# Altium footprint library QFP.PcbLib: 10 footprints
Each footprint in its own frame and in the unit in brackets; x right, y up, seen from the top. Pads: shape width x height; smd on the part's side, far side on the other; paste and mask are expansions set on the pad; w line width, h text height; cw(c..) or ccw(c..) is an arc to the next point about the centre after c.
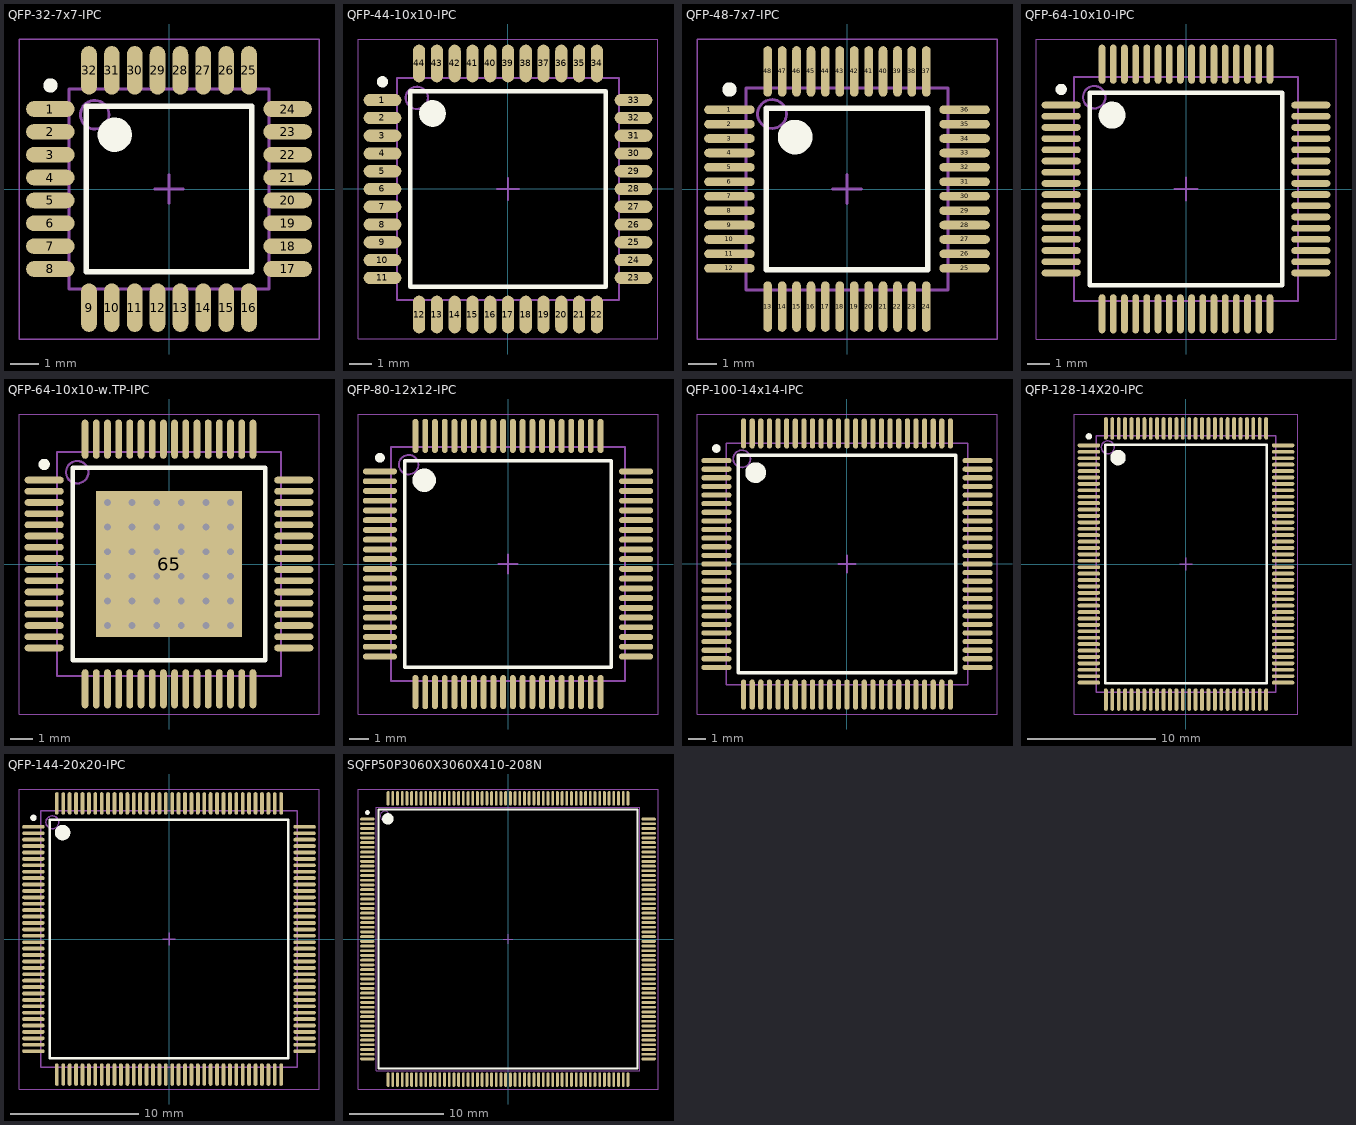
[diagram p0: the footprints below, top view; thin cyan lines are the x and y axes]

## QFP-32-7x7-IPC [mm] "TQFP, 32-Leads, Body 7.00x7.00mm, Pitch 0.80mm, IPC Medium Density"
height 1.6
pads (32):
  oval 1.7x0.55 smd: 1(-4.15,2.8) 2(-4.15,2) 3(-4.15,1.2) 4(-4.15,0.4) 5(-4.15,-0.4) 6(-4.15,-1.2) 7(-4.15,-2) 8(-4.15,-2.8) 17(4.15,-2.8) 18(4.15,-2) 19(4.15,-1.2) 20(4.15,-0.4) 21(4.15,0.4) 22(4.15,1.2) 23(4.15,2) 24(4.15,2.8)
  oval 0.55x1.7 smd: 9(-2.8,-4.15) 10(-2,-4.15) 11(-1.2,-4.15) 12(-0.4,-4.15) 13(0.4,-4.15) 14(1.2,-4.15) 15(2,-4.15) 16(2.8,-4.15) 25(2.8,4.15) 26(2,4.15) 27(1.2,4.15) 28(0.4,4.15) 29(-0.4,4.15) 30(-1.2,4.15) 31(-2,4.15) 32(-2.8,4.15)
Top Overlay:
  circle w0.25: c-4.15,3.625 r0.125
  circle w0.6: c-1.9,1.9 r0.3
  lines w0.2: -2.9,-2.9 -2.9,2.9 2.9,2.9 2.9,-2.9 -2.9,-2.9
Mechanical 13:
  circle w0.1: c-2.6,2.6 r0.5
  lines w0.1: -3.5,-3.5 -3.5,3.5 3.5,3.5 3.5,-3.5 -3.5,-3.5
Mechanical 15:
  lines w0.05: -5.25,-5.25 -5.25,5.25 5.25,5.25 5.25,-5.25 -5.25,-5.25
  lines w0.1: -0.5,0 0.5,0 ; 0,-0.5 0,0.5
3D body: height 1.6, standoff 0.1, extent -3.5,-3.5 3.5,3.5

## QFP-44-10x10-IPC [mm] "TQFP, 44-Leads, Body 10.00x10.00mm, Pitch 0.80mm, IPC Medium Density"
height 1.6
pads (44):
  oval 1.7x0.55 smd: 1(-5.65,4) 2(-5.65,3.2) 3(-5.65,2.4) 4(-5.65,1.6) 5(-5.65,0.8) 6(-5.65,0) 7(-5.65,-0.8) 8(-5.65,-1.6) 9(-5.65,-2.4) 10(-5.65,-3.2) 11(-5.65,-4) 23(5.65,-4) 24(5.65,-3.2) 25(5.65,-2.4) 26(5.65,-1.6) 27(5.65,-0.8) 28(5.65,0) 29(5.65,0.8) 30(5.65,1.6) 31(5.65,2.4) 32(5.65,3.2) 33(5.65,4)
  oval 0.55x1.7 smd: 12(-4,-5.65) 13(-3.2,-5.65) 14(-2.4,-5.65) 15(-1.6,-5.65) 16(-0.8,-5.65) 17(0,-5.65) 18(0.8,-5.65) 19(1.6,-5.65) 20(2.4,-5.65) 21(3.2,-5.65) 22(4,-5.65) 34(4,5.65) 35(3.2,5.65) 36(2.4,5.65) 37(1.6,5.65) 38(0.8,5.65) 39(0,5.65) 40(-0.8,5.65) 41(-1.6,5.65) 42(-2.4,5.65) 43(-3.2,5.65) 44(-4,5.65)
Top Overlay:
  circle w0.6: c-3.4,3.4 r0.3
  circle w0.25: c-5.65,4.825 r0.125
  lines w0.2: -4.4,-4.4 4.4,-4.4 4.4,4.4 -4.4,4.4 -4.4,-4.4
Mechanical 13:
  circle w0.1: c-4.1,4.1 r0.5
  lines w0.1: -5,-5 5,-5 5,5 -5,5 -5,-5
Mechanical 15:
  lines w0.05: -6.75,-6.75 6.75,-6.75 6.75,6.75 -6.75,6.75 -6.75,-6.75
  lines w0.1: -0.5,0 0.5,0 ; 0,-0.5 0,0.5
3D body: height 1.6, standoff 0.1, extent -5,-5 5,5

## QFP-48-7x7-IPC [mm] "QFP, 48-Leads, Body 7.00x7.00mm, Pitch 0.50mm, IPC Medium Density"
height 1.6
pads (48):
  oval 1.75x0.3 smd: 1(-4.075,2.75) 2(-4.075,2.25) 3(-4.075,1.75) 4(-4.075,1.25) 5(-4.075,0.75) 6(-4.075,0.25) 7(-4.075,-0.25) 8(-4.075,-0.75) 9(-4.075,-1.25) 10(-4.075,-1.75) 11(-4.075,-2.25) 12(-4.075,-2.75) 25(4.075,-2.75) 26(4.075,-2.25) 27(4.075,-1.75) 28(4.075,-1.25) 29(4.075,-0.75) 30(4.075,-0.25) 31(4.075,0.25) 32(4.075,0.75) 33(4.075,1.25) 34(4.075,1.75) 35(4.075,2.25) 36(4.075,2.75)
  oval 0.3x1.75 smd: 13(-2.75,-4.075) 14(-2.25,-4.075) 15(-1.75,-4.075) 16(-1.25,-4.075) 17(-0.75,-4.075) 18(-0.25,-4.075) 19(0.25,-4.075) 20(0.75,-4.075) 21(1.25,-4.075) 22(1.75,-4.075) 23(2.25,-4.075) 24(2.75,-4.075) 37(2.75,4.075) 38(2.25,4.075) 39(1.75,4.075) 40(1.25,4.075) 41(0.75,4.075) 42(0.25,4.075) 43(-0.25,4.075) 44(-0.75,4.075) 45(-1.25,4.075) 46(-1.75,4.075) 47(-2.25,4.075) 48(-2.75,4.075)
Top Overlay:
  circle w0.25: c-4.075,3.45 r0.125
  circle w0.6: c-1.8,1.8 r0.3
  lines w0.2: -2.8,-2.8 -2.8,2.8 2.8,2.8 2.8,-2.8 -2.8,-2.8
Mechanical 13:
  circle w0.1: c-2.6,2.6 r0.5
  lines w0.1: -3.5,-3.5 -3.5,3.5 3.5,3.5 3.5,-3.5 -3.5,-3.5
Mechanical 15:
  lines w0.05: -5.2,-5.2 -5.2,5.2 5.2,5.2 5.2,-5.2 -5.2,-5.2
  lines w0.1: -0.5,0 0.5,0 ; 0,-0.5 0,0.5
3D body: height 1.6, standoff 0.1, extent -3.5,-3.5 3.5,3.5

## QFP-64-10x10-IPC [mm] "QFP, 64-Leads, Body 10.00x10.00mm, Pitch 0.50mm, IPC Medium Density"
height 1.6
pads (64):
  oval 1.75x0.3 smd: 1(-5.575,3.75) 2(-5.575,3.25) 3(-5.575,2.75) 4(-5.575,2.25) 5(-5.575,1.75) 6(-5.575,1.25) 7(-5.575,0.75) 8(-5.575,0.25) 9(-5.575,-0.25) 10(-5.575,-0.75) 11(-5.575,-1.25) 12(-5.575,-1.75) 13(-5.575,-2.25) 14(-5.575,-2.75) 15(-5.575,-3.25) 16(-5.575,-3.75) 33(5.575,-3.75) 34(5.575,-3.25) 35(5.575,-2.75) 36(5.575,-2.25) 37(5.575,-1.75) 38(5.575,-1.25) 39(5.575,-0.75) 40(5.575,-0.25) 41(5.575,0.25) 42(5.575,0.75) 43(5.575,1.25) 44(5.575,1.75) 45(5.575,2.25) 46(5.575,2.75) 47(5.575,3.25) 48(5.575,3.75)
  oval 0.3x1.75 smd: 17(-3.75,-5.575) 18(-3.25,-5.575) 19(-2.75,-5.575) 20(-2.25,-5.575) 21(-1.75,-5.575) 22(-1.25,-5.575) 23(-0.75,-5.575) 24(-0.25,-5.575) 25(0.25,-5.575) 26(0.75,-5.575) 27(1.25,-5.575) 28(1.75,-5.575) 29(2.25,-5.575) 30(2.75,-5.575) 31(3.25,-5.575) 32(3.75,-5.575) 49(3.75,5.575) 50(3.25,5.575) 51(2.75,5.575) 52(2.25,5.575) 53(1.75,5.575) 54(1.25,5.575) 55(0.75,5.575) 56(0.25,5.575) 57(-0.25,5.575) 58(-0.75,5.575) 59(-1.25,5.575) 60(-1.75,5.575) 61(-2.25,5.575) 62(-2.75,5.575) 63(-3.25,5.575) 64(-3.75,5.575)
Top Overlay:
  circle w0.6: c-3.3,3.3 r0.3
  circle w0.25: c-5.575,4.45 r0.125
  lines w0.2: -4.3,-4.3 4.3,-4.3 4.3,4.3 -4.3,4.3 -4.3,-4.3
Mechanical 13:
  circle w0.1: c-4.1,4.1 r0.5
  lines w0.1: -5,-5 5,-5 5,5 -5,5 -5,-5
Mechanical 15:
  lines w0.05: -6.7,-6.7 6.7,-6.7 6.7,6.7 -6.7,6.7 -6.7,-6.7
  lines w0.1: -0.5,0 0.5,0 ; 0,-0.5 0,0.5
3D body: height 1.6, standoff 0.1, extent -5,-5 5,5

## QFP-64-10x10-w.TP-IPC [mm] "TSQFP, 64-Leads, Body 10.00x10.00mm, Pitch 0.50mm, Thermal Pad 6.50x6.50mm, IPC Medium Density"
height 1.2
pads (65):
  oval 1.75x0.3 smd: 1(-5.575,3.75) 2(-5.575,3.25) 3(-5.575,2.75) 4(-5.575,2.25) 5(-5.575,1.75) 6(-5.575,1.25) 7(-5.575,0.75) 8(-5.575,0.25) 9(-5.575,-0.25) 10(-5.575,-0.75) 11(-5.575,-1.25) 12(-5.575,-1.75) 13(-5.575,-2.25) 14(-5.575,-2.75) 15(-5.575,-3.25) 16(-5.575,-3.75) 33(5.575,-3.75) 34(5.575,-3.25) 35(5.575,-2.75) 36(5.575,-2.25) 37(5.575,-1.75) 38(5.575,-1.25) 39(5.575,-0.75) 40(5.575,-0.25) 41(5.575,0.25) 42(5.575,0.75) 43(5.575,1.25) 44(5.575,1.75) 45(5.575,2.25) 46(5.575,2.75) 47(5.575,3.25) 48(5.575,3.75)
  oval 0.3x1.75 smd: 17(-3.75,-5.575) 18(-3.25,-5.575) 19(-2.75,-5.575) 20(-2.25,-5.575) 21(-1.75,-5.575) 22(-1.25,-5.575) 23(-0.75,-5.575) 24(-0.25,-5.575) 25(0.25,-5.575) 26(0.75,-5.575) 27(1.25,-5.575) 28(1.75,-5.575) 29(2.25,-5.575) 30(2.75,-5.575) 31(3.25,-5.575) 32(3.75,-5.575) 49(3.75,5.575) 50(3.25,5.575) 51(2.75,5.575) 52(2.25,5.575) 53(1.75,5.575) 54(1.25,5.575) 55(0.75,5.575) 56(0.25,5.575) 57(-0.25,5.575) 58(-0.75,5.575) 59(-1.25,5.575) 60(-1.75,5.575) 61(-2.25,5.575) 62(-2.75,5.575) 63(-3.25,5.575) 64(-3.75,5.575)
  rect 6.5x6.5 smd: 65(0,0)
via -2.75,2.75 diameter 0.6 hole 0.3
via -1.65,2.75 diameter 0.6 hole 0.3
via -0.55,2.75 diameter 0.6 hole 0.3
via 0.55,2.75 diameter 0.6 hole 0.3
via 1.65,2.75 diameter 0.6 hole 0.3
via 2.75,2.75 diameter 0.6 hole 0.3
via -2.75,1.65 diameter 0.6 hole 0.3
via -1.65,1.65 diameter 0.6 hole 0.3
via -0.55,1.65 diameter 0.6 hole 0.3
via 0.55,1.65 diameter 0.6 hole 0.3
via 1.65,1.65 diameter 0.6 hole 0.3
via 2.75,1.65 diameter 0.6 hole 0.3
via -2.75,0.55 diameter 0.6 hole 0.3
via -1.65,0.55 diameter 0.6 hole 0.3
via -0.55,0.55 diameter 0.6 hole 0.3
via 0.55,0.55 diameter 0.6 hole 0.3
via 1.65,0.55 diameter 0.6 hole 0.3
via 2.75,0.55 diameter 0.6 hole 0.3
via -2.75,-0.55 diameter 0.6 hole 0.3
via -1.65,-0.55 diameter 0.6 hole 0.3
via -0.55,-0.55 diameter 0.6 hole 0.3
via 0.55,-0.55 diameter 0.6 hole 0.3
via 1.65,-0.55 diameter 0.6 hole 0.3
via 2.75,-0.55 diameter 0.6 hole 0.3
via -2.75,-1.65 diameter 0.6 hole 0.3
via -1.65,-1.65 diameter 0.6 hole 0.3
via -0.55,-1.65 diameter 0.6 hole 0.3
via 0.55,-1.65 diameter 0.6 hole 0.3
via 1.65,-1.65 diameter 0.6 hole 0.3
via 2.75,-1.65 diameter 0.6 hole 0.3
via -2.75,-2.75 diameter 0.6 hole 0.3
via -1.65,-2.75 diameter 0.6 hole 0.3
via -0.55,-2.75 diameter 0.6 hole 0.3
via 0.55,-2.75 diameter 0.6 hole 0.3
via 1.65,-2.75 diameter 0.6 hole 0.3
via 2.75,-2.75 diameter 0.6 hole 0.3
Top Overlay:
  circle w0.25: c-5.575,4.45 r0.125
  lines w0.2: -4.3,-4.3 -4.3,4.3 4.3,4.3 4.3,-4.3 -4.3,-4.3
Mechanical 13:
  circle w0.1: c-4.1,4.1 r0.5
  lines w0.1: -5,-5 -5,5 5,5 5,-5 -5,-5
Mechanical 15:
  lines w0.05: -6.7,-6.7 -6.7,6.7 6.7,6.7 6.7,-6.7 -6.7,-6.7
  lines w0.1: -0.5,0 0.5,0 ; 0,-0.5 0,0.5
3D body: height 1.2, standoff 0.1, extent -5,-5 5,5

## QFP-80-12x12-IPC [mm] "QFP, 80-Leads, Body 12.00x12.00mm, Pitch 0.50mm, IPC Medium Density"
height 1.6
pads (80):
  oval 1.75x0.3 smd: 1(-6.575,4.75) 2(-6.575,4.25) 3(-6.575,3.75) 4(-6.575,3.25) 5(-6.575,2.75) 6(-6.575,2.25) 7(-6.575,1.75) 8(-6.575,1.25) 9(-6.575,0.75) 10(-6.575,0.25) 11(-6.575,-0.25) 12(-6.575,-0.75) 13(-6.575,-1.25) 14(-6.575,-1.75) 15(-6.575,-2.25) 16(-6.575,-2.75) 17(-6.575,-3.25) 18(-6.575,-3.75) 19(-6.575,-4.25) 20(-6.575,-4.75) 41(6.575,-4.75) 42(6.575,-4.25) 43(6.575,-3.75) 44(6.575,-3.25) 45(6.575,-2.75) 46(6.575,-2.25) 47(6.575,-1.75) 48(6.575,-1.25) 49(6.575,-0.75) 50(6.575,-0.25) 51(6.575,0.25) 52(6.575,0.75) 53(6.575,1.25) 54(6.575,1.75) 55(6.575,2.25) 56(6.575,2.75) 57(6.575,3.25) 58(6.575,3.75) 59(6.575,4.25) 60(6.575,4.75)
  oval 0.3x1.75 smd: 21(-4.75,-6.575) 22(-4.25,-6.575) 23(-3.75,-6.575) 24(-3.25,-6.575) 25(-2.75,-6.575) 26(-2.25,-6.575) 27(-1.75,-6.575) 28(-1.25,-6.575) 29(-0.75,-6.575) 30(-0.25,-6.575) 31(0.25,-6.575) 32(0.75,-6.575) 33(1.25,-6.575) 34(1.75,-6.575) 35(2.25,-6.575) 36(2.75,-6.575) 37(3.25,-6.575) 38(3.75,-6.575) 39(4.25,-6.575) 40(4.75,-6.575) 61(4.75,6.575) 62(4.25,6.575) 63(3.75,6.575) 64(3.25,6.575) 65(2.75,6.575) 66(2.25,6.575) 67(1.75,6.575) 68(1.25,6.575) 69(0.75,6.575) 70(0.25,6.575) 71(-0.25,6.575) 72(-0.75,6.575) 73(-1.25,6.575) 74(-1.75,6.575) 75(-2.25,6.575) 76(-2.75,6.575) 77(-3.25,6.575) 78(-3.75,6.575) 79(-4.25,6.575) 80(-4.75,6.575)
Top Overlay:
  circle w0.6: c-4.3,4.3 r0.3
  circle w0.25: c-6.575,5.45 r0.125
  lines w0.2: -5.3,-5.3 5.3,-5.3 5.3,5.3 -5.3,5.3 -5.3,-5.3
Mechanical 13:
  circle w0.1: c-5.1,5.1 r0.5
  lines w0.1: -6,-6 6,-6 6,6 -6,6 -6,-6
Mechanical 15:
  lines w0.05: -7.7,-7.7 7.7,-7.7 7.7,7.7 -7.7,7.7 -7.7,-7.7
  lines w0.1: -0.5,0 0.5,0 ; 0,-0.5 0,0.5
3D body: height 1.6, standoff 0.1, extent -6,-6 6,6

## QFP-100-14x14-IPC [mm] "TSQFP, 100-Leads, Body 14.00x14.00mm, Pitch 0.50mm, IPC Medium Density"
height 1.6
pads (100):
  oval 1.75x0.3 smd: 1(-7.575,6) 2(-7.575,5.5) 3(-7.575,5) 4(-7.575,4.5) 5(-7.575,4) 6(-7.575,3.5) 7(-7.575,3) 8(-7.575,2.5) 9(-7.575,2) 10(-7.575,1.5) 11(-7.575,1) 12(-7.575,0.5) 13(-7.575,0) 14(-7.575,-0.5) 15(-7.575,-1) 16(-7.575,-1.5) 17(-7.575,-2) 18(-7.575,-2.5) 19(-7.575,-3) 20(-7.575,-3.5) 21(-7.575,-4) 22(-7.575,-4.5) 23(-7.575,-5) 24(-7.575,-5.5) 25(-7.575,-6) 51(7.575,-6) 52(7.575,-5.5) 53(7.575,-5) 54(7.575,-4.5) 55(7.575,-4) 56(7.575,-3.5) 57(7.575,-3) 58(7.575,-2.5) 59(7.575,-2) 60(7.575,-1.5) 61(7.575,-1) 62(7.575,-0.5) 63(7.575,0) 64(7.575,0.5) 65(7.575,1) 66(7.575,1.5) 67(7.575,2) 68(7.575,2.5) 69(7.575,3) 70(7.575,3.5) 71(7.575,4) 72(7.575,4.5) 73(7.575,5) 74(7.575,5.5) 75(7.575,6)
  oval 0.3x1.75 smd: 26(-6,-7.575) 27(-5.5,-7.575) 28(-5,-7.575) 29(-4.5,-7.575) 30(-4,-7.575) 31(-3.5,-7.575) 32(-3,-7.575) 33(-2.5,-7.575) 34(-2,-7.575) 35(-1.5,-7.575) 36(-1,-7.575) 37(-0.5,-7.575) 38(0,-7.575) 39(0.5,-7.575) 40(1,-7.575) 41(1.5,-7.575) 42(2,-7.575) 43(2.5,-7.575) 44(3,-7.575) 45(3.5,-7.575) 46(4,-7.575) 47(4.5,-7.575) 48(5,-7.575) 49(5.5,-7.575) 50(6,-7.575) 76(6,7.575) 77(5.5,7.575) 78(5,7.575) 79(4.5,7.575) 80(4,7.575) 81(3.5,7.575) 82(3,7.575) 83(2.5,7.575) 84(2,7.575) 85(1.5,7.575) 86(1,7.575) 87(0.5,7.575) 88(0,7.575) 89(-0.5,7.575) 90(-1,7.575) 91(-1.5,7.575) 92(-2,7.575) 93(-2.5,7.575) 94(-3,7.575) 95(-3.5,7.575) 96(-4,7.575) 97(-4.5,7.575) 98(-5,7.575) 99(-5.5,7.575) 100(-6,7.575)
Top Overlay:
  circle w0.6: c-5.3,5.3 r0.3
  circle w0.25: c-7.575,6.7 r0.125
  lines w0.2: -6.3,-6.3 6.3,-6.3 6.3,6.3 -6.3,6.3 -6.3,-6.3
Mechanical 13:
  circle w0.1: c-6.1,6.1 r0.5
  lines w0.1: -7,-7 7,-7 7,7 -7,7 -7,-7
Mechanical 15:
  lines w0.05: -8.7,-8.7 8.7,-8.7 8.7,8.7 -8.7,8.7 -8.7,-8.7
  lines w0.1: -0.5,0 0.5,0 ; 0,-0.5 0,0.5
3D body: height 1.6, standoff 0.15, extent -7,-7 7,7

## QFP-128-14X20-IPC [mm] "TSQFP, 128-Leads, Body 14.00x20.00mm, Pitch 0.50mm, IPC Medium Density"
height 1.6
pads (128):
  oval 1.75x0.3 smd: 1(-7.575,9.25) 2(-7.575,8.75) 3(-7.575,8.25) 4(-7.575,7.75) 5(-7.575,7.25) 6(-7.575,6.75) 7(-7.575,6.25) 8(-7.575,5.75) 9(-7.575,5.25) 10(-7.575,4.75) 11(-7.575,4.25) 12(-7.575,3.75) 13(-7.575,3.25) 14(-7.575,2.75) 15(-7.575,2.25) 16(-7.575,1.75) 17(-7.575,1.25) 18(-7.575,0.75) 19(-7.575,0.25) 20(-7.575,-0.25) 21(-7.575,-0.75) 22(-7.575,-1.25) 23(-7.575,-1.75) 24(-7.575,-2.25) 25(-7.575,-2.75) 26(-7.575,-3.25) 27(-7.575,-3.75) 28(-7.575,-4.25) 29(-7.575,-4.75) 30(-7.575,-5.25) 31(-7.575,-5.75) 32(-7.575,-6.25) 33(-7.575,-6.75) 34(-7.575,-7.25) 35(-7.575,-7.75) 36(-7.575,-8.25) 37(-7.575,-8.75) 38(-7.575,-9.25) 65(7.575,-9.25) 66(7.575,-8.75) 67(7.575,-8.25) 68(7.575,-7.75) 69(7.575,-7.25) 70(7.575,-6.75) 71(7.575,-6.25) 72(7.575,-5.75) 73(7.575,-5.25) 74(7.575,-4.75) 75(7.575,-4.25) 76(7.575,-3.75) 77(7.575,-3.25) 78(7.575,-2.75) 79(7.575,-2.25) 80(7.575,-1.75) 81(7.575,-1.25) 82(7.575,-0.75) 83(7.575,-0.25) 84(7.575,0.25) 85(7.575,0.75) 86(7.575,1.25) 87(7.575,1.75) 88(7.575,2.25) 89(7.575,2.75) 90(7.575,3.25) 91(7.575,3.75) 92(7.575,4.25) 93(7.575,4.75) 94(7.575,5.25) 95(7.575,5.75) 96(7.575,6.25) 97(7.575,6.75) 98(7.575,7.25) 99(7.575,7.75) 100(7.575,8.25) 101(7.575,8.75) 102(7.575,9.25)
  oval 0.3x1.75 smd: 39(-6.25,-10.575) 40(-5.75,-10.575) 41(-5.25,-10.575) 42(-4.75,-10.575) 43(-4.25,-10.575) 44(-3.75,-10.575) 45(-3.25,-10.575) 46(-2.75,-10.575) 47(-2.25,-10.575) 48(-1.75,-10.575) 49(-1.25,-10.575) 50(-0.75,-10.575) 51(-0.25,-10.575) 52(0.25,-10.575) 53(0.75,-10.575) 54(1.25,-10.575) 55(1.75,-10.575) 56(2.25,-10.575) 57(2.75,-10.575) 58(3.25,-10.575) 59(3.75,-10.575) 60(4.25,-10.575) 61(4.75,-10.575) 62(5.25,-10.575) 63(5.75,-10.575) 64(6.25,-10.575) 103(6.25,10.575) 104(5.75,10.575) 105(5.25,10.575) 106(4.75,10.575) 107(4.25,10.575) 108(3.75,10.575) 109(3.25,10.575) 110(2.75,10.575) 111(2.25,10.575) 112(1.75,10.575) 113(1.25,10.575) 114(0.75,10.575) 115(0.25,10.575) 116(-0.25,10.575) 117(-0.75,10.575) 118(-1.25,10.575) 119(-1.75,10.575) 120(-2.25,10.575) 121(-2.75,10.575) 122(-3.25,10.575) 123(-3.75,10.575) 124(-4.25,10.575) 125(-4.75,10.575) 126(-5.25,10.575) 127(-5.75,10.575) 128(-6.25,10.575)
Top Overlay:
  circle w0.6: c-5.3,8.3 r0.3
  circle w0.25: c-7.575,9.95 r0.125
  lines w0.2: -6.3,-9.3 6.3,-9.3 6.3,9.3 -6.3,9.3 -6.3,-9.3
Mechanical 13:
  circle w0.1: c-6.1,9.1 r0.5
  lines w0.1: -7,-10 7,-10 7,10 -7,10 -7,-10
Mechanical 15:
  lines w0.05: -8.7,-11.7 8.7,-11.7 8.7,11.7 -8.7,11.7 -8.7,-11.7
  lines w0.1: -0.5,0 0.5,0 ; 0,-0.5 0,0.5
3D body: height 1.6, standoff 0.1, extent -7,-10 7,10

## QFP-144-20x20-IPC [mm] "TSQFP, 144-Leads, Body 20.00x20.00mm, Pitch 0.50mm, IPC Medium Density"
height 1.6
pads (144):
  oval 1.75x0.3 smd: 1(-10.575,8.75) 2(-10.575,8.25) 3(-10.575,7.75) 4(-10.575,7.25) 5(-10.575,6.75) 6(-10.575,6.25) 7(-10.575,5.75) 8(-10.575,5.25) 9(-10.575,4.75) 10(-10.575,4.25) 11(-10.575,3.75) 12(-10.575,3.25) 13(-10.575,2.75) 14(-10.575,2.25) 15(-10.575,1.75) 16(-10.575,1.25) 17(-10.575,0.75) 18(-10.575,0.25) 19(-10.575,-0.25) 20(-10.575,-0.75) 21(-10.575,-1.25) 22(-10.575,-1.75) 23(-10.575,-2.25) 24(-10.575,-2.75) 25(-10.575,-3.25) 26(-10.575,-3.75) 27(-10.575,-4.25) 28(-10.575,-4.75) 29(-10.575,-5.25) 30(-10.575,-5.75) 31(-10.575,-6.25) 32(-10.575,-6.75) 33(-10.575,-7.25) 34(-10.575,-7.75) 35(-10.575,-8.25) 36(-10.575,-8.75) 73(10.575,-8.75) 74(10.575,-8.25) 75(10.575,-7.75) 76(10.575,-7.25) 77(10.575,-6.75) 78(10.575,-6.25) 79(10.575,-5.75) 80(10.575,-5.25) 81(10.575,-4.75) 82(10.575,-4.25) 83(10.575,-3.75) 84(10.575,-3.25) 85(10.575,-2.75) 86(10.575,-2.25) 87(10.575,-1.75) 88(10.575,-1.25) 89(10.575,-0.75) 90(10.575,-0.25) 91(10.575,0.25) 92(10.575,0.75) 93(10.575,1.25) 94(10.575,1.75) 95(10.575,2.25) 96(10.575,2.75) 97(10.575,3.25) 98(10.575,3.75) 99(10.575,4.25) 100(10.575,4.75) 101(10.575,5.25) 102(10.575,5.75) 103(10.575,6.25) 104(10.575,6.75) 105(10.575,7.25) 106(10.575,7.75) 107(10.575,8.25) 108(10.575,8.75)
  oval 0.3x1.75 smd: 37(-8.75,-10.575) 38(-8.25,-10.575) 39(-7.75,-10.575) 40(-7.25,-10.575) 41(-6.75,-10.575) 42(-6.25,-10.575) 43(-5.75,-10.575) 44(-5.25,-10.575) 45(-4.75,-10.575) 46(-4.25,-10.575) 47(-3.75,-10.575) 48(-3.25,-10.575) 49(-2.75,-10.575) 50(-2.25,-10.575) 51(-1.75,-10.575) 52(-1.25,-10.575) 53(-0.75,-10.575) 54(-0.25,-10.575) 55(0.25,-10.575) 56(0.75,-10.575) 57(1.25,-10.575) 58(1.75,-10.575) 59(2.25,-10.575) 60(2.75,-10.575) 61(3.25,-10.575) 62(3.75,-10.575) 63(4.25,-10.575) 64(4.75,-10.575) 65(5.25,-10.575) 66(5.75,-10.575) 67(6.25,-10.575) 68(6.75,-10.575) 69(7.25,-10.575) 70(7.75,-10.575) 71(8.25,-10.575) 72(8.75,-10.575) 109(8.75,10.575) 110(8.25,10.575) 111(7.75,10.575) 112(7.25,10.575) 113(6.75,10.575) 114(6.25,10.575) 115(5.75,10.575) 116(5.25,10.575) 117(4.75,10.575) 118(4.25,10.575) 119(3.75,10.575) 120(3.25,10.575) 121(2.75,10.575) 122(2.25,10.575) 123(1.75,10.575) 124(1.25,10.575) 125(0.75,10.575) 126(0.25,10.575) 127(-0.25,10.575) 128(-0.75,10.575) 129(-1.25,10.575) 130(-1.75,10.575) 131(-2.25,10.575) 132(-2.75,10.575) 133(-3.25,10.575) 134(-3.75,10.575) 135(-4.25,10.575) 136(-4.75,10.575) 137(-5.25,10.575) 138(-5.75,10.575) 139(-6.25,10.575) 140(-6.75,10.575) 141(-7.25,10.575) 142(-7.75,10.575) 143(-8.25,10.575) 144(-8.75,10.575)
Top Overlay:
  circle w0.6: c-8.3,8.3 r0.3
  circle w0.25: c-10.575,9.45 r0.125
  lines w0.2: -9.3,-9.3 9.3,-9.3 9.3,9.3 -9.3,9.3 -9.3,-9.3
Mechanical 13:
  circle w0.1: c-9.1,9.1 r0.5
  lines w0.1: -10,-10 10,-10 10,10 -10,10 -10,-10
Mechanical 15:
  lines w0.05: -11.7,-11.7 11.7,-11.7 11.7,11.7 -11.7,11.7 -11.7,-11.7
  lines w0.1: -0.5,0 0.5,0 ; 0,-0.5 0,0.5
3D body: height 1.6, standoff 0.1, extent -10,-10 10,10

## SQFP50P3060X3060X410-208N [mm] "SQFP, 208-Leads, Body 28.00x28.00mm, Pitch 0.50mm, IPC Medium Density"
height 4.1
pads (208):
  oval 1.55x0.3 smd: 1(-14.95,12.75) 2(-14.95,12.25) 3(-14.95,11.75) 4(-14.95,11.25) 5(-14.95,10.75) 6(-14.95,10.25) 7(-14.95,9.75) 8(-14.95,9.25) 9(-14.95,8.75) 10(-14.95,8.25) 11(-14.95,7.75) 12(-14.95,7.25) 13(-14.95,6.75) 14(-14.95,6.25) 15(-14.95,5.75) 16(-14.95,5.25) 17(-14.95,4.75) 18(-14.95,4.25) 19(-14.95,3.75) 20(-14.95,3.25) 21(-14.95,2.75) 22(-14.95,2.25) 23(-14.95,1.75) 24(-14.95,1.25) 25(-14.95,0.75) 26(-14.95,0.25) 27(-14.95,-0.25) 28(-14.95,-0.75) 29(-14.95,-1.25) 30(-14.95,-1.75) 31(-14.95,-2.25) 32(-14.95,-2.75) 33(-14.95,-3.25) 34(-14.95,-3.75) 35(-14.95,-4.25) 36(-14.95,-4.75) 37(-14.95,-5.25) 38(-14.95,-5.75) 39(-14.95,-6.25) 40(-14.95,-6.75) 41(-14.95,-7.25) 42(-14.95,-7.75) 43(-14.95,-8.25) 44(-14.95,-8.75) 45(-14.95,-9.25) 46(-14.95,-9.75) 47(-14.95,-10.25) 48(-14.95,-10.75) 49(-14.95,-11.25) 50(-14.95,-11.75) 51(-14.95,-12.25) 52(-14.95,-12.75) 105(14.95,-12.75) 106(14.95,-12.25) 107(14.95,-11.75) 108(14.95,-11.25) 109(14.95,-10.75) 110(14.95,-10.25) 111(14.95,-9.75) 112(14.95,-9.25) 113(14.95,-8.75) 114(14.95,-8.25) 115(14.95,-7.75) 116(14.95,-7.25) 117(14.95,-6.75) 118(14.95,-6.25) 119(14.95,-5.75) 120(14.95,-5.25) 121(14.95,-4.75) 122(14.95,-4.25) 123(14.95,-3.75) 124(14.95,-3.25) 125(14.95,-2.75) 126(14.95,-2.25) 127(14.95,-1.75) 128(14.95,-1.25) 129(14.95,-0.75) 130(14.95,-0.25) 131(14.95,0.25) 132(14.95,0.75) 133(14.95,1.25) 134(14.95,1.75) 135(14.95,2.25) 136(14.95,2.75) 137(14.95,3.25) 138(14.95,3.75) 139(14.95,4.25) 140(14.95,4.75) 141(14.95,5.25) 142(14.95,5.75) 143(14.95,6.25) 144(14.95,6.75) 145(14.95,7.25) 146(14.95,7.75) 147(14.95,8.25) 148(14.95,8.75) 149(14.95,9.25) 150(14.95,9.75) 151(14.95,10.25) 152(14.95,10.75) 153(14.95,11.25) 154(14.95,11.75) 155(14.95,12.25) 156(14.95,12.75)
  oval 0.3x1.55 smd: 53(-12.75,-14.95) 54(-12.25,-14.95) 55(-11.75,-14.95) 56(-11.25,-14.95) 57(-10.75,-14.95) 58(-10.25,-14.95) 59(-9.75,-14.95) 60(-9.25,-14.95) 61(-8.75,-14.95) 62(-8.25,-14.95) 63(-7.75,-14.95) 64(-7.25,-14.95) 65(-6.75,-14.95) 66(-6.25,-14.95) 67(-5.75,-14.95) 68(-5.25,-14.95) 69(-4.75,-14.95) 70(-4.25,-14.95) 71(-3.75,-14.95) 72(-3.25,-14.95) 73(-2.75,-14.95) 74(-2.25,-14.95) 75(-1.75,-14.95) 76(-1.25,-14.95) 77(-0.75,-14.95) 78(-0.25,-14.95) 79(0.25,-14.95) 80(0.75,-14.95) 81(1.25,-14.95) 82(1.75,-14.95) 83(2.25,-14.95) 84(2.75,-14.95) 85(3.25,-14.95) 86(3.75,-14.95) 87(4.25,-14.95) 88(4.75,-14.95) 89(5.25,-14.95) 90(5.75,-14.95) 91(6.25,-14.95) 92(6.75,-14.95) 93(7.25,-14.95) 94(7.75,-14.95) 95(8.25,-14.95) 96(8.75,-14.95) 97(9.25,-14.95) 98(9.75,-14.95) 99(10.25,-14.95) 100(10.75,-14.95) 101(11.25,-14.95) 102(11.75,-14.95) 103(12.25,-14.95) 104(12.75,-14.95) 157(12.75,14.95) 158(12.25,14.95) 159(11.75,14.95) 160(11.25,14.95) 161(10.75,14.95) 162(10.25,14.95) 163(9.75,14.95) 164(9.25,14.95) 165(8.75,14.95) 166(8.25,14.95) 167(7.75,14.95) 168(7.25,14.95) 169(6.75,14.95) 170(6.25,14.95) 171(5.75,14.95) 172(5.25,14.95) 173(4.75,14.95) 174(4.25,14.95) 175(3.75,14.95) 176(3.25,14.95) 177(2.75,14.95) 178(2.25,14.95) 179(1.75,14.95) 180(1.25,14.95) 181(0.75,14.95) 182(0.25,14.95) 183(-0.25,14.95) 184(-0.75,14.95) 185(-1.25,14.95) 186(-1.75,14.95) 187(-2.25,14.95) 188(-2.75,14.95) 189(-3.25,14.95) 190(-3.75,14.95) 191(-4.25,14.95) 192(-4.75,14.95) 193(-5.25,14.95) 194(-5.75,14.95) 195(-6.25,14.95) 196(-6.75,14.95) 197(-7.25,14.95) 198(-7.75,14.95) 199(-8.25,14.95) 200(-8.75,14.95) 201(-9.25,14.95) 202(-9.75,14.95) 203(-10.25,14.95) 204(-10.75,14.95) 205(-11.25,14.95) 206(-11.75,14.95) 207(-12.25,14.95) 208(-12.75,14.95)
Top Overlay:
  circle w0.6: c-12.775,12.775 r0.3
  circle w0.25: c-14.95,13.45 r0.125
  lines w0.2: -13.775,-13.775 13.775,-13.775 13.775,13.775 -13.775,13.775 -13.775,-13.775
Mechanical 13:
  circle w0.1: c-13.1,13.1 r0.5
  lines w0.1: -14,-14 14,-14 14,14 -14,14 -14,-14
Mechanical 15:
  lines w0.05: -15.95,-15.95 15.95,-15.95 15.95,15.95 -15.95,15.95 -15.95,-15.95
  lines w0.1: -0.5,0 0.5,0 ; 0,-0.5 0,0.5
3D body: height 4.1, standoff 0.25, extent -14,-14 14,14